# Altium footprint library SN_PcbLib.PcbLib: 4 footprints
Each footprint in its own frame and in the unit in brackets; x right, y up, seen from the top. Pads: shape width x height; smd on the part's side, far side on the other; paste and mask are expansions set on the pad; w line width, h text height; cw(c..) or ccw(c..) is an arc to the next point about the centre after c.
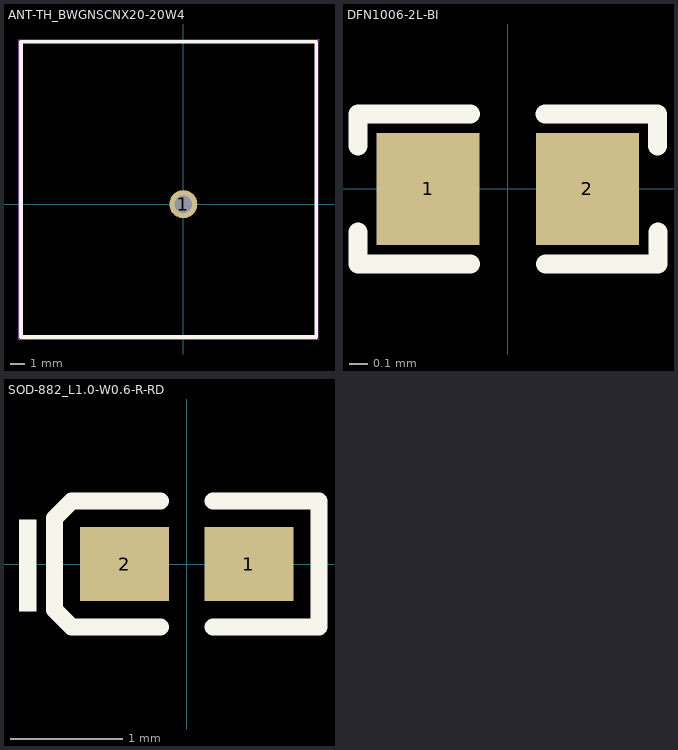
[diagram p0: the footprints below, top view; thin cyan lines are the x and y axes]

## ANT-TH_BWGNSCNX20-20W4 [mm]
pads (1):
  round 1.9 hole 1.2 paste+0 mask+0.051: 1(0,0)
Top Overlay:
  lines w0.254: -11,-9 -11,11 9,11 9,-9 -11,-9
Mechanical 15:
  region: 9.187,11.127 9.187,11.152 9.152,11.187 9.102,11.187 9.067,11.152 9.067,11.127 9.067,11.102 9.102,11.067 9.152,11.067 9.187,11.102 9.187,11.127
  region: 0.5,0 0.5,0.099 0.424,0.283 0.283,0.424 0.099,0.5 -0.099,0.5 -0.283,0.424 -0.424,0.283 -0.5,0.099 -0.5,0 -0.5,-0.099 -0.424,-0.283 -0.283,-0.424 -0.099,-0.5 0.099,-0.5 0.283,-0.424 0.424,-0.283 0.5,-0.099 0.5,0
  lines w0.051: -11.127,-9.127 -11.127,11.127 9.127,11.127 9.127,-9.127 -11.127,-9.127

## DFN1006-2L-BI [mm]
pads (2):
  rect 0.55x0.6 smd paste+0 mask+0.051: 1(-0.425,0) 2(0.425,0)
Top Overlay:
  lines w0.102: -0.8,-0.23 -0.8,-0.4 -0.2,-0.4 ; -0.8,0.229 -0.8,0.4 -0.2,0.4 ; 0.2,0.4 0.8,0.4 0.8,0.23 ; 0.203,-0.4 0.803,-0.4 0.803,-0.23

## PCBComponent_1 [mm]

## SOD-882_L1.0-W0.6-R-RD [mm]
pads (2):
  rect 0.79x0.661 smd paste-100 mask+0.051: 1(0.551,0) 2(-0.551,0)
Top Overlay:
  region: -1.49,-0.421 -1.49,0.393 -1.338,0.393 -1.338,-0.421
  lines w0.152: -0.232,-0.559 -1.022,-0.559 -1.175,-0.407 -1.175,0.407 -1.022,0.559 -0.232,0.559 ; 0.233,-0.559 1.175,-0.559 1.175,0.559 0.233,0.559
Top Paste:
  region: 0.141,-0.106 0.141,0.106 0.409,0.331 0.897,0.331 0.946,0.282 0.946,-0.282 0.897,-0.331 0.409,-0.331
  region: -0.141,-0.106 -0.141,0.106 -0.409,0.331 -0.897,0.331 -0.946,0.282 -0.946,-0.282 -0.897,-0.331 -0.409,-0.331